# EAGLE library part MK20DX256VLH7 (library FarnellThings)
MCU, KINETIS, K20, CORTEX M4, LQFP-64
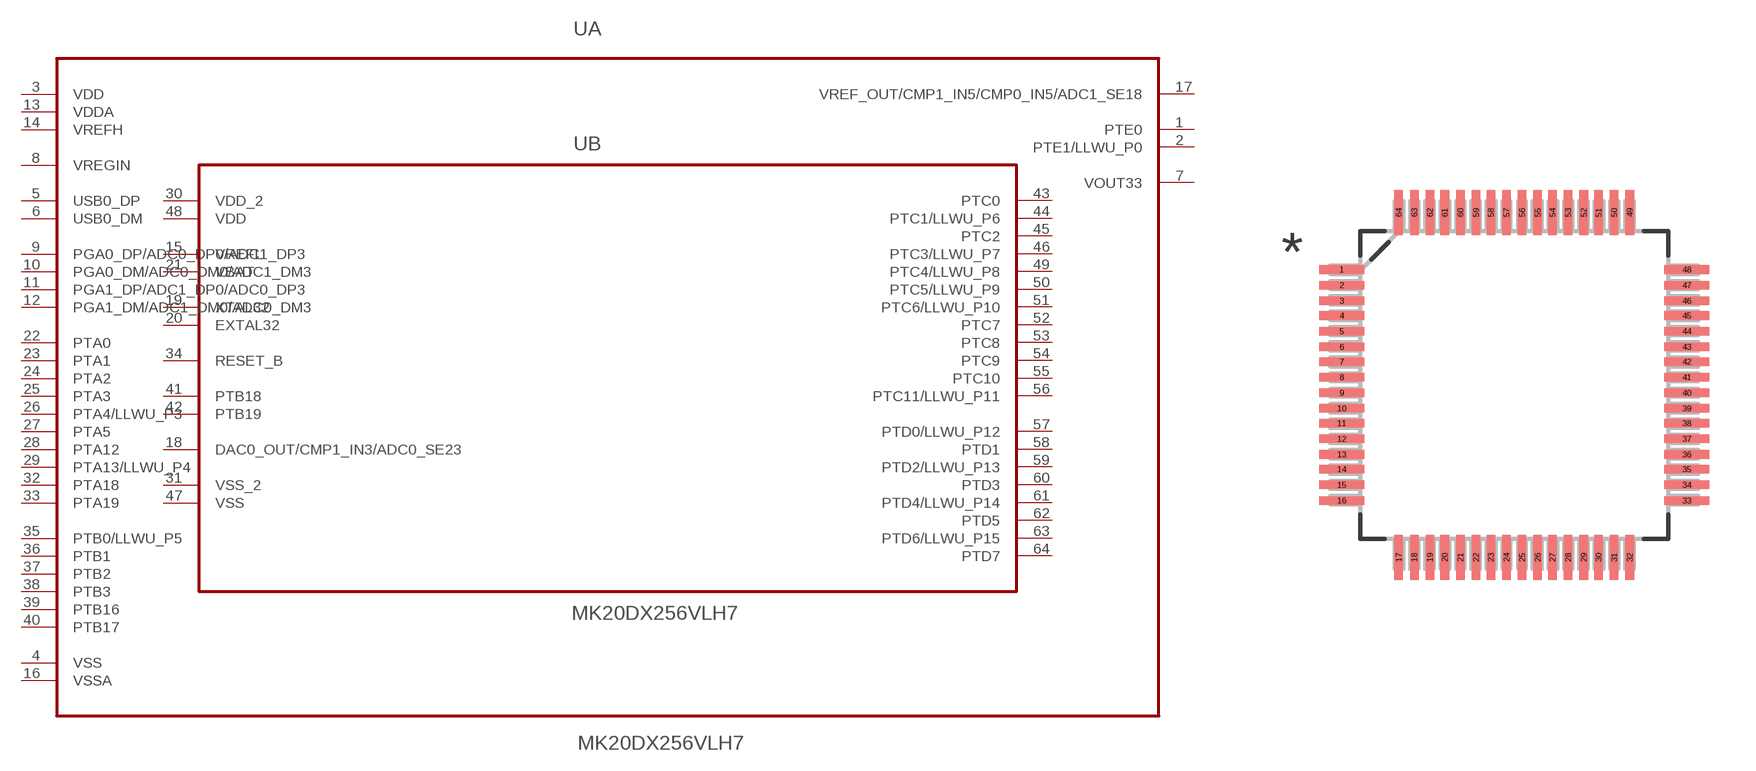
[diagram p4: symbol with the pads of QFP50P1200X1200X160-64N; footprint QFP50P1200X1200X160-64N]

Designator prefix U; gates A=MK20DX256VLH7_A B=MK20DX256VLH7_B

## MK20DX256VLH7 (MPN: MK20DX256VLH7; OC_FARNELL: 2133577; OC_NEWARK: 24W6507; PACKAGE: LQFP-64; SUPPLIER: FREESCALE SEMICONDUCTOR)  [QFP50P1200X1200X160-64N]
1  A:PTE0
2  A:PTE1/LLWU_P0
3  A:VDD  pwr
4  A:VSS  pas
5  A:USB0_DP  pas
6  A:USB0_DM  pas
7  A:VOUT33  out
8  A:VREGIN  in
9  A:PGA0_DP/ADC0_DP0/ADC1_DP3
10  A:PGA0_DM/ADC0_DM0/ADC1_DM3
11  A:PGA1_DP/ADC1_DP0/ADC0_DP3
12  A:PGA1_DM/ADC1_DM0/ADC0_DM3
13  A:VDDA  pwr
14  A:VREFH  pas
15  B:VREFL  pas
16  A:VSSA  pas
17  A:VREF_OUT/CMP1_IN5/CMP0_IN5/ADC1_SE18  out
18  B:DAC0_OUT/CMP1_IN3/ADC0_SE23  pas
19  B:XTAL32  pas
20  B:EXTAL32  pas
21  B:VBAT  pwr
22  A:PTA0
23  A:PTA1
24  A:PTA2
25  A:PTA3
26  A:PTA4/LLWU_P3
27  A:PTA5
28  A:PTA12
29  A:PTA13/LLWU_P4
30  B:VDD_2  pwr
31  B:VSS_2  pas
32  A:PTA18
33  A:PTA19
34  B:RESET_B  pas
35  A:PTB0/LLWU_P5
36  A:PTB1
37  A:PTB2
38  A:PTB3
39  A:PTB16
40  A:PTB17
41  B:PTB18
42  B:PTB19
43  B:PTC0
44  B:PTC1/LLWU_P6
45  B:PTC2
46  B:PTC3/LLWU_P7
47  B:VSS  pas
48  B:VDD  pwr
49  B:PTC4/LLWU_P8
50  B:PTC5/LLWU_P9
51  B:PTC6/LLWU_P10
52  B:PTC7
53  B:PTC8
54  B:PTC9
55  B:PTC10
56  B:PTC11/LLWU_P11
57  B:PTD0/LLWU_P12
58  B:PTD1
59  B:PTD2/LLWU_P13
60  B:PTD3
61  B:PTD4/LLWU_P14
62  B:PTD5
63  B:PTD6/LLWU_P15
64  B:PTD7

## Footprint QFP50P1200X1200X160-64N (pad centres in mm)
smd 1.473 x 0.279: 1 -5.613,3.759; 2 -5.613,3.251; 3 -5.613,2.743; 4 -5.613,2.261; 5 -5.613,1.753; 6 -5.613,1.245; 7 -5.613,0.762; 8 -5.613,0.254; 9 -5.613,-0.254; 10 -5.613,-0.762; 11 -5.613,-1.245; 12 -5.613,-1.753; 13 -5.613,-2.261; 14 -5.613,-2.743; 15 -5.613,-3.251; 16 -5.613,-3.759; 33 5.613,-3.759; 34 5.613,-3.251; 35 5.613,-2.743; 36 5.613,-2.261; 37 5.613,-1.753; 38 5.613,-1.245; 39 5.613,-0.762; 40 5.613,-0.254; 41 5.613,0.254; 42 5.613,0.762; 43 5.613,1.245; 44 5.613,1.753; 45 5.613,2.261; 46 5.613,2.743; 47 5.613,3.251; 48 5.613,3.759
smd 0.279 x 1.473: 17 -3.759,-5.613; 18 -3.251,-5.613; 19 -2.743,-5.613; 20 -2.261,-5.613; 21 -1.753,-5.613; 22 -1.245,-5.613; 23 -0.762,-5.613; 24 -0.254,-5.613; 25 0.254,-5.613; 26 0.762,-5.613; 27 1.245,-5.613; 28 1.753,-5.613; 29 2.261,-5.613; 30 2.743,-5.613; 31 3.251,-5.613; 32 3.759,-5.613; 49 3.759,5.613; 50 3.251,5.613; 51 2.743,5.613; 52 2.261,5.613; 53 1.753,5.613; 54 1.245,5.613; 55 0.762,5.613; 56 0.254,5.613; 57 -0.254,5.613; 58 -0.762,5.613; 59 -1.245,5.613; 60 -1.753,5.613; 61 -2.261,5.613; 62 -2.743,5.613; 63 -3.251,5.613; 64 -3.759,5.613